# Altium footprint library relais_schaltung.PcbLib: 2 footprints
Each footprint in its own frame and in the unit in brackets; x right, y up, seen from the top. Pads: shape width x height; smd on the part's side, far side on the other; paste and mask are expansions set on the pad; w line width, h text height; cw(c..) or ccw(c..) is an arc to the next point about the centre after c.
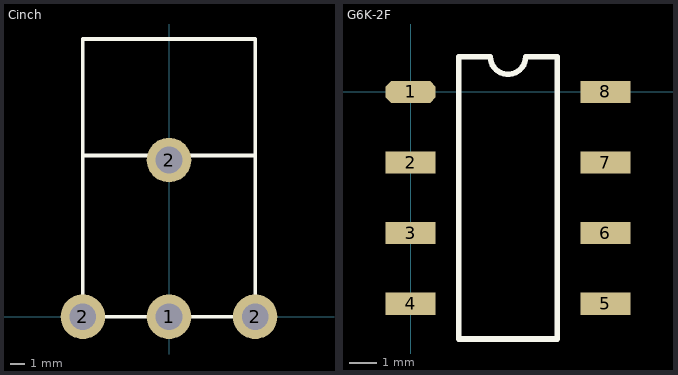
[diagram p0: the footprints below, top view; thin cyan lines are the x and y axes]

## Cinch [mm]
pads (4):
  round 3 hole 1.8: 1(0,0) 2(-5.8,0) 2(0,10.55) 2(5.8,0)
Top Overlay:
  lines w0.254: -5.85,0 5.8,0 5.8,8 5.8,18.7 -5.8,18.7 -5.8,8 -5.8,0.05 ; -5.8,10.85 5.8,10.85

## G6K-2F [mm]
pads (8):
  oct 1.8x0.8 smd: 1(0,0)
  rect 1.8x0.8 smd: 2(0,-2.54) 3(0,-5.08) 4(0,-7.62) 5(7,-7.62) 6(7,-5.08) 7(7,-2.54) 8(7,0)
Top Layer:
  text "1" at -2.159,1.651 h1.52
Top Overlay:
  lines w0.2: 1.735,-8.89 1.735,1.27 2.865,1.27 ccw(c3.5,1.27) 4.135,1.27 5.265,1.27 5.265,-8.89 1.735,-8.89